# Altium schematic symbol library Redressement.SchLib: 5 symbols
Pins are listed as number, name and electrical type; pins without a type are passive.

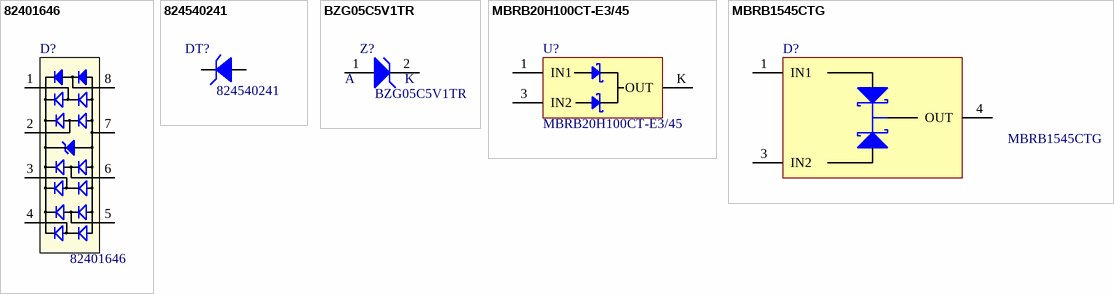
[diagram p0: symbols 82401646 to MBRB1545CTG]

## 82401646
designator D?
TVS DIODE 5VWM 13VC 8MSOP; Manufacturer: Wurth Electronics Inc.; Supplier 1: Farnell; Manufacturer Part Number: 82401646; ComponentLink1URL: http://katalog.we-online.de/pbs/datasheet/82401646.pdf; ComponentLink1Description: Datasheet; Supplier Part Number 1: 1825864
footprint MSOP-8L (MSOP-8L, 8-Leads, Body 5x3mm, Pitch 0.5mm)
pins: 1 "I/O1", 2 "I/O2", 3 "I/O3", 4 "I/O4", 5 "I/O5", 6 "I/O6", 7 "GND", 8 "VDD"

## 824540241
designator DT?
WE-TVSP Power TVS Diode, Unidirectional, 1500 W, 24 VDC; Manufacturer: Wurth Electronics Inc.; Supplier 1: Farnell; Supplier Part Number 1: 2536699; Manufacturer Part Number: 824540241; ComponentLink1URL: http://katalog.we-online.de/pbs/datasheet/824540241.pdf; ComponentLink1Description: Datasheet
footprint DO-214AB_Unidirectional (WE-TVSP Power TVS Diode, DO-214AB, Unidirectional)
pins: 1, 2

## BZG05C5V1TR
designator Z?
DIODE ZENER 5.1V 1.25W DO214AC; Manufacturer: Vishay Semiconductor Diodes Division; Supplier 1: Farnell; Supplier Part Number 1: 5215973; Manufacturer Part Number: BZG05C5V1TR; ComponentLink1URL: http://www.vishay.com/docs/85893/bzg05c.pdf; ComponentLink1Description: http://www.vishay.com/docs/85893/bzg05c.pdf; Value: 5.1V
footprint SMA Diode (DO-214AC) (Case 403D-02)
pins: 1, 2
text: A; K

## MBRB20H100CT-E3/45
designator U?
Supplier 1: Farnell; Supplier Part Number 1: 1859694
footprint MBR(F,B)20H(90,100)CT-TO263AB
pins: 1 IN1 (power), 3 IN2 (power), K OUT (power)

## MBRB1545CTG
designator D?
DIODE ARRAY SCHOTTKY 45V D2PAK; Manufacturer: ON Semiconductor; Supplier 1: Farnell; Manufacturer Part Number: MBRB1545CTG; ComponentLink1URL: http://www.onsemi.com/pub_link/Collateral/MBRB1545CT-D.PDF; ComponentLink1Description: http://www.onsemi.com/pub_link/Collateral/MBRB1545CT-D.PDF; Supplier Part Number 1: 1431082
footprint MBRB1545CTG
pins: 1 IN1 (power), 3 IN2 (power), 4 OUT (power)